# Altium schematic symbol library symbols.SchLib: 17 symbols
Pins are listed as number, name and electrical type; pins without a type are passive.

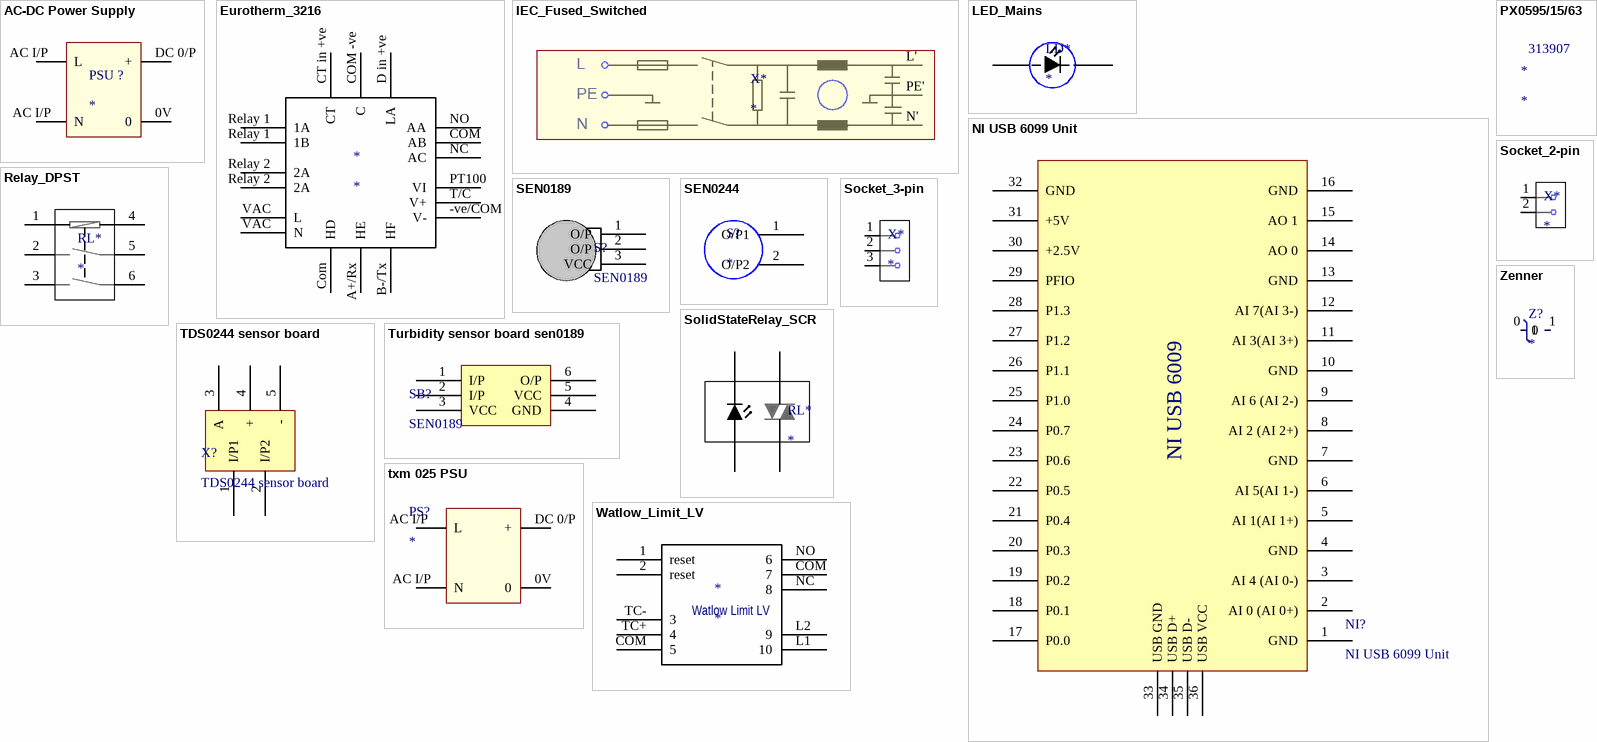
[diagram p0: symbols AC-DC Power Supply to Zenner]

## AC-DC Power Supply
designator PSU ?
AC - DC Supply
pins: 0V 0, AC I/P N "0V", AC I/P  L, DC 0/P +

## Eurotherm_3216
designator *
pins: -ve/COM V-, A+/Rx HE, B-/Tx HF, COM AB, Com HD, COM -ve C, CT in +ve CT, D in +ve LA, NC AC, NO AA, PT100 VI, Relay 1 1A, Relay 1 1B, Relay 2 2A, Relay 2 2A, T/C V+, VAC L, VAC N

## IEC_Fused_Switched
designator X*
pins: L', N', PE'
text: L; PE; N

## LED_Mains
designator LD*
pins: ?1, ?2

## NI USB 6099 Unit
designator NI?
NI USB 6009 unit with A-D, D-A &I/O
pins: 1 GND, 2 AI 0 (AI 0+), 3 AI 4 (AI 0-), 4 GND, 5 AI 1(AI 1+), 6 AI 5(AI 1-), 7 GND, 8 AI 2 (AI 2+), 9 AI 6 (AI 2-), 10 GND, 11 AI 3(AI 3+), 12 AI 7(AI 3-), 13 GND, 14 AO 0, 15 AO 1, 16 GND, 17 P0.0, 18 P0.1, 19 P0.2, 20 P0.3, 21 P0.4, 22 P0.5, 23 P0.6, 24 P0.7, 25 P1.0, 26 P1.1, 27 P1.2, 28 P1.3, 29 PFIO, 30 +2.5V, 31 +5V, 32 GND, 33 USB GND, 34 USB D+, 35 USB D-, 36 USB VCC
text: NI USB 6009

## PX0595/15/63
designator *  Supplier Part Number 1: 313907
AC Power Entry Modules AC POWER INLET SNAP FIT; Manufacturer: Bulgin; Manufacturer Part Number: PX0595/15/63; Connector Type: Receptacle; Gender: Male; Number of Positions: 3; Voltage Rating: 250V; Current Rating: 10A; Number of Ports: 1; Current: 15A; Fuse: No; Panel Thickness: 0.059inch; Approvals: UL,CSA,VDE,ENEC; Supplier 1: Farnell; RoHS: Yes; Category: Connectors; Stock 1: 241; Pricing 1: 1=1.52000, 50=1.40000, 100=1.37000, 250=1.34000, 500=1.32000, 1000=1.29000 (GBP); Mount: Panel,Snap in; Contact Plating: Nickel; Contact Material: Brass; Housing Material: Nylon; Number of Terminals: 3; Min Operating Temperature: -40°C; Max Operating Temperature: 70°C; Termination: Quick Connect; Package Quantity: 1; Packaging: Bulk; Orientation: Straight; Voltage Rating (AC): 250V; Max Voltage Rating (AC): 250V; Max Current Rating: 10A; Length: 22.5mm; Depth: 29.2mm; Flammability Rating: UL94 V-0; REACH SVHC: No SVHC; ComponentLink1URL: https://datasheet.ciiva.com/11728/0900766b8002e929-11728208.pdf?src-supplier=RSComponents; ComponentLink1Description: https://datasheet.ciiva.com/11728/0900766b8002e929-11728208.pdf?src-supplier=RSComponents; ComponentLink2URL: https://datasheet.ciiva.com/15082/bulgin-2010-p83-15082532.pdf?src-supplier=Digi-Key; ComponentLink2Description: https://datasheet.ciiva.com/15082/bulgin-2010-p83-15082532.pdf?src-supplier=Digi-Key

## Relay_DPST
designator RL*
pins: 1, 2, 3, 4, 5, 6

## SEN0189
designator S?
Turbidity sensor SEN0189
pins: 1 O/P, 2 O/P, 3 VCC

## SEN0244
designator S?
pins: 1 O/P1, 2 O/P2

## Socket_2-pin
designator X*
pins: 1, 2

## Socket_3-pin
designator X*
pins: 1, 2, 3

## SolidStateRelay_SCR
designator RL*
pins: ?1, ?2, ?3, ?4

## TDS0244 sensor board
designator X?
TDS0244 sensor borad
pins: 1 I/P1, 2 I/P2, 3 A, 4 +, 5 -

## Turbidity sensor board sen0189
designator SB?, comment SEN0189
Turbdity sensor SKU board: sen0189
pins: 1 I/P , 2 I/P, 3 VCC, 4 GND, 5 VCC, 6 O/P

## txm 025 PSU
designator PS?
traco 25w psu txm 025
pins: 0V 0, AC I/P N "0V", AC I/P  L, DC 0/P +

## Watlow_Limit_LV
designator *
pins: 1 reset, 2 reset, COM 7, COM 5, L1 10, L2 9, NC 8, NO 6, TC+ 4, TC- 3
text: Watlow Limit LV

## Zenner
designator Z?
footprint SOD523F (Zenner diode)
pins: 0, 1